# Altium footprint library HDR_1X2_3.5.PcbLib: 1 footprints
Each footprint in its own frame and in the unit in brackets; x right, y up, seen from the top. Pads: shape width x height; smd on the part's side, far side on the other; paste and mask are expansions set on the pad; w line width, h text height; cw(c..) or ccw(c..) is an arc to the next point about the centre after c.
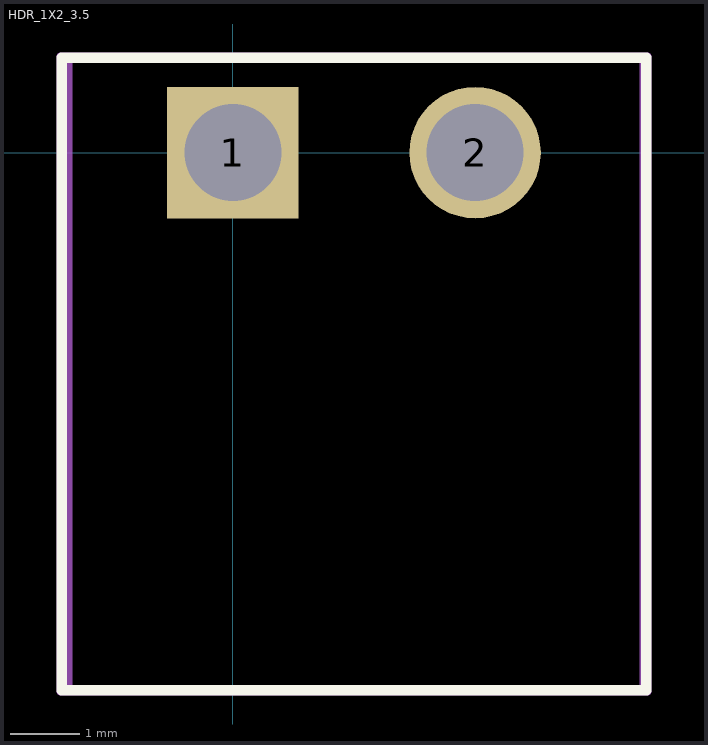
[diagram p0: the footprint, top view; thin cyan lines are the x and y axes]

## HDR_1X2_3.5 [mm] "Pitch 3.5mm Body 8.5X9.2mm High 7.2mm"
height 7.2
pads (2):
  rect 1.9x1.9 hole 1.4: 1(0,0)
  round 1.9 hole 1.4: 2(3.5,0)
Top Overlay:
  lines w0.152: -2.474,-7.774 -2.474,1.374 5.974,1.374 5.974,-7.774 -2.474,-7.774
Mechanical 13:
  lines w0.1: -2.372,-7.8 5.928,-7.8 5.928,1.4 -2.372,1.4 -2.372,-7.8
Mechanical 15:
  lines w0.1: -2.5,-7.8 6,-7.8 6,1.4 -2.5,1.4 -2.5,-7.8
3D body: height 7.4, standoff -3.5, extent -2.372,-7.838 5.928,1.362